# Altium footprint library B7B-XH-A.PcbLib: 1 footprints
Each footprint in its own frame and in the unit in brackets; x right, y up, seen from the top. Pads: shape width x height; smd on the part's side, far side on the other; paste and mask are expansions set on the pad; w line width, h text height; cw(c..) or ccw(c..) is an arc to the next point about the centre after c.
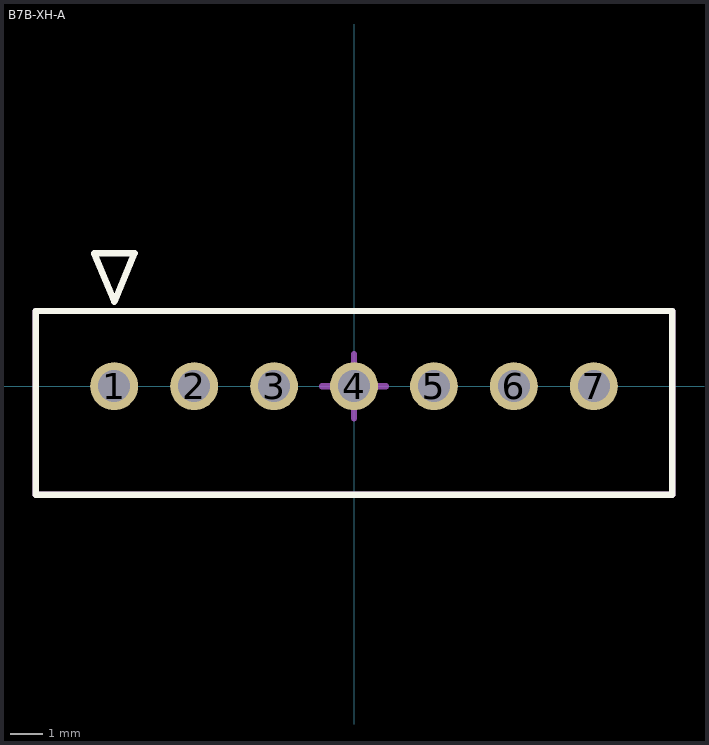
[diagram p0: the footprint, top view; thin cyan lines are the x and y axes]

## B7B-XH-A [mm]
pads (7):
  round 1.5 hole 1 paste-2539.97 mask+0.05: 1(-7.5,0) 2(-5,0) 3(-2.5,0) 4(0,0) 5(2.5,0) 6(5,0) 7(7.5,0)
Top Overlay:
  lines w0.2: -9.95,-3.4 9.95,-3.4 9.95,2.35 -9.95,2.35 -9.95,-3.4 ; -8.129,4.162 -6.859,4.162 -7.494,2.638 -8.129,4.162
Top Designator:
  text ".Designator" at -7.618,-0.127 h1.52
3D Body:
  lines w0.2: -9.95,-3.4 9.95,-3.4 9.95,2.35 -9.95,2.35 -9.95,-3.4
Center Cross:
  lines w0.2: -1,0 1,0 ; 0,-1 0,0 0,1
3D body "B7B-XH-A.STEP": height 7.01, standoff -3.39, extent -9.95,-3.4 9.95,2.35